# Altium schematic symbol library D_Standard_Dual_CC.SchLib: 1 symbol
Pins are listed as number, name and electrical type; pins without a type are passive.

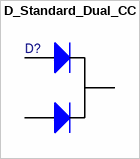
[diagram p0: symbol D_Standard_Dual_CC]

## D_Standard_Dual_CC
designator D?
pins: 1 A1, 2 A2, 3 K
1 alternate drawing of the same symbol